# Altium schematic symbol library AO4286.SchLib: 2 symbols
Pins are listed as number, name and electrical type; pins without a type are passive.

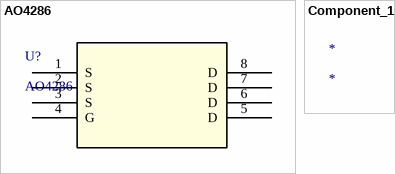
[diagram p0: symbols AO4286 to Component_1]

## AO4286
designator U?
No Description Available; Manufacturer_Name: Alpha and Omega Semiconductor; Copyright: Copyright (C) 2025 Ultra Librarian. All rights reserved.; Manufacturer_Part_Number: AO4286; RefDes: RefDes; Type: Type
footprint SO-8_AOS
pins: 1 S, 2 S, 3 S, 4 G, 5 D, 6 D, 7 D, 8 D

## Component_1
designator *